# Altium integrated library Lattice Semiconductor ispMACH 4000Z.IntLib: 102 symbols (part 6 of 11)
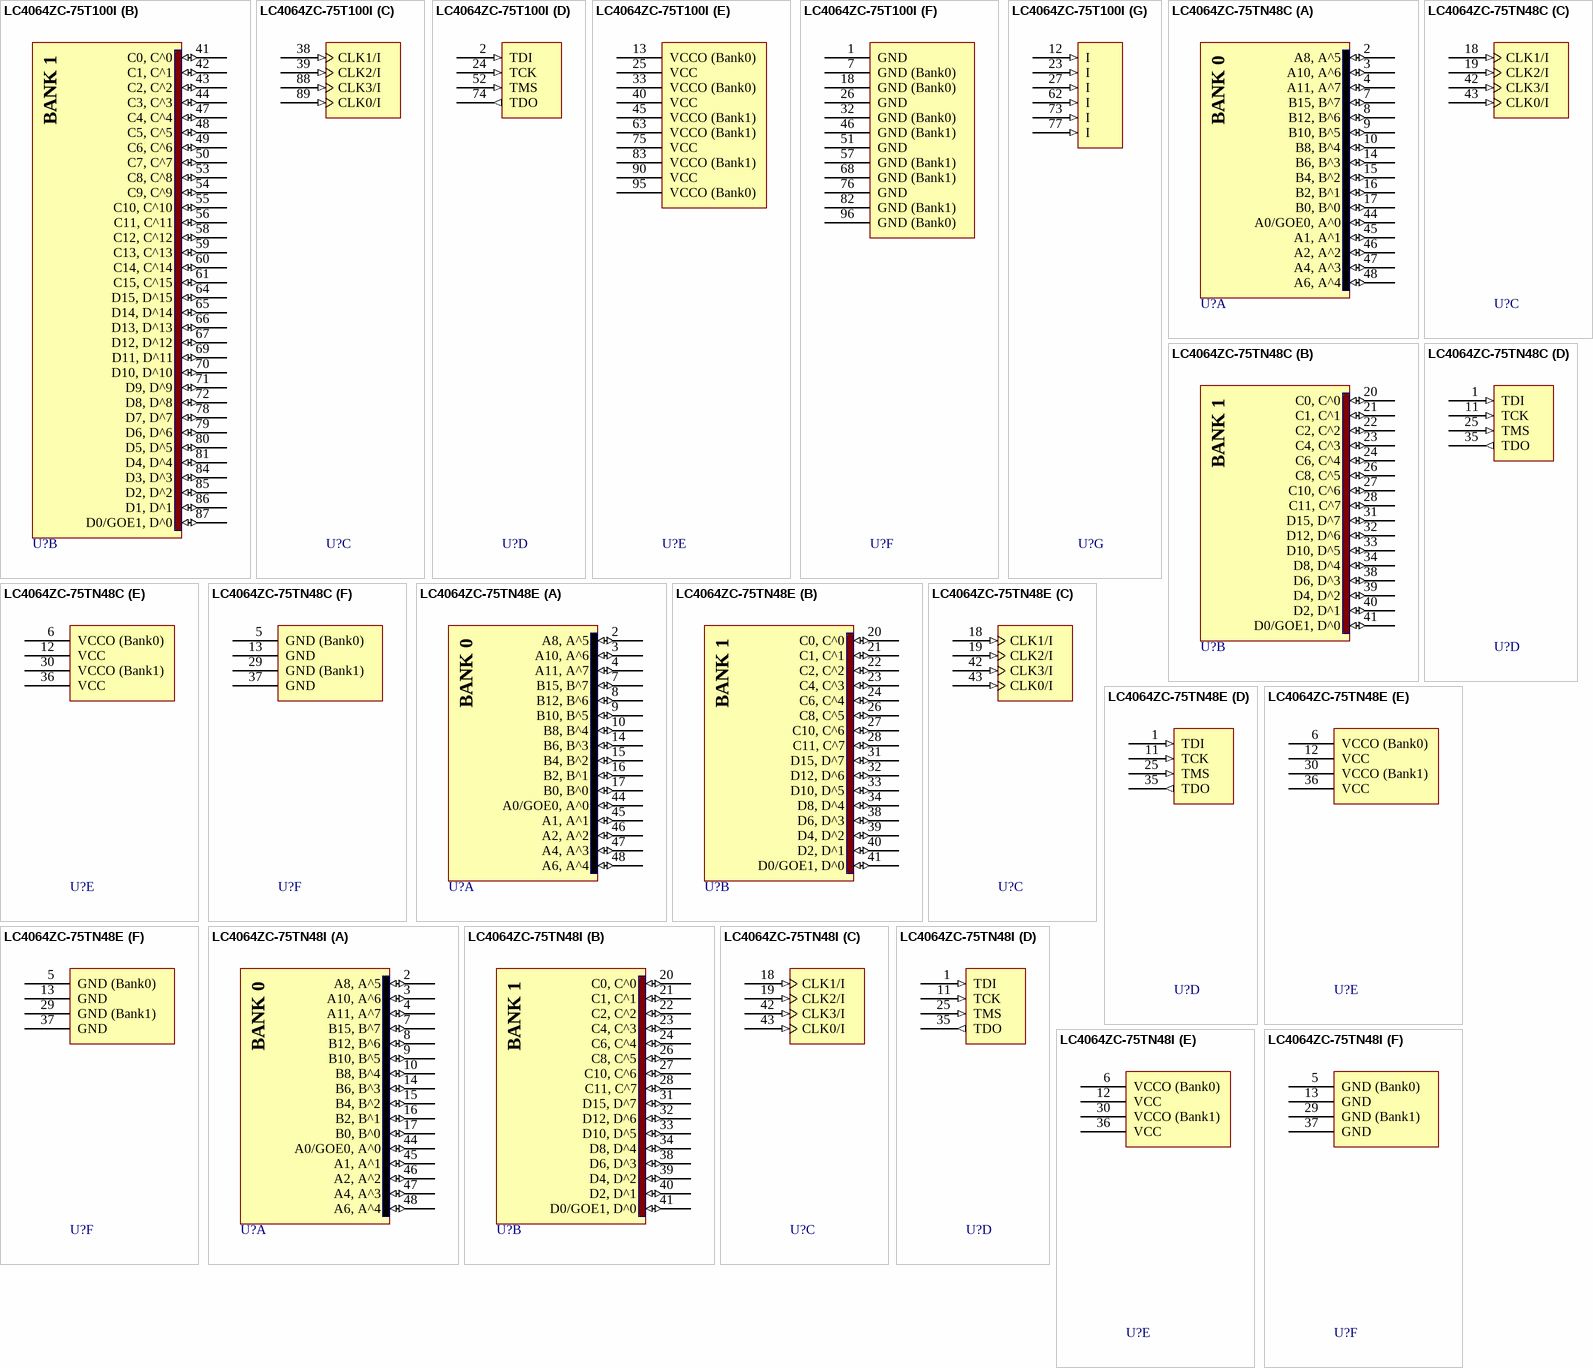
[diagram p46: symbols LC4064ZC-75T100I to LC4064ZC-75TN48I]

## LC4064ZC-75TN48I
designator U?
ispMACH 4064 SuperFAST High Density PLD, 1.8 V, 32 User I/Os, 48-Pin TQFP, 7.5 ns, Industrial Grade, Pb-Free; DatasheetVersion: ver22.3, Mar-2007; PackageVersion: ver02.6, Nov-2010; PackageReference: TQFP48(1mm); PackageDescription: 48-Pin Thin Quad Flat Pack 1.0 mm Thick (TQFP48); ComponentLink1Description: Manufacturer URL; ComponentLink1URL: http://www.latticesemi.com/; ComponentLink2Description: Datasheet; ComponentLink2URL: http://www.latticesemi.com/dynamic/view_document.cfm?document_id=3646
footprint TQFP48(1mm)_N (Thin QFP, 48-Leads, Body 7x7mm, Pitch 0.5mm, IPC Medium Density)
footprint TQFP48(1mm)_L (Thin QFP, 48-Leads, Body 7x7mm, Pitch 0.5mm, IPC High Density)
footprint TQFP48(1mm)_M (Thin QFP, 48-Leads, Body 7x7mm, Pitch 0.5mm, IPC Low Density)
part A pins: 2 A8, A^5 (io) "General purpose I/O.", 3 A10, A^6 (io) "General purpose I/O.", 4 A11, A^7 (io) "General purpose I/O.", 7 B15, B^7 (io) "General purpose I/O.", 8 B12, B^6 (io) "General purpose I/O.", 9 B10, B^5 (io) "General purpose I/O.", 10 B8, B^4 (io) "General purpose I/O.", 14 B6, B^3 (io) "General purpose I/O.", 15 B4, B^2 (io) "General purpose I/O.", 16 B2, B^1 (io) "General purpose I/O.", 17 B0, B^0 (io) "General purpose I/O.", 44 A0/GOE0, A^0 (io) "Either Global Output Enable Input or general I/O.", 45 A1, A^1 (io) "General purpose I/O.", 46 A2, A^2 (io) "General purpose I/O.", 47 A4, A^3 (io) "General purpose I/O.", 48 A6, A^4 (io) "General purpose I/O."
part B pins: 20 C0, C^0 (io) "General purpose I/O.", 21 C1, C^1 (io) "General purpose I/O.", 22 C2, C^2 (io) "General purpose I/O.", 23 C4, C^3 (io) "General purpose I/O.", 24 C6, C^4 (io) "General purpose I/O.", 26 C8, C^5 (io) "General purpose I/O.", 27 C10, C^6 (io) "General purpose I/O.", 28 C11, C^7 (io) "General purpose I/O.", 31 D15, D^7 (io) "General purpose I/O.", 32 D12, D^6 (io) "General purpose I/O.", 33 D10, D^5 (io) "General purpose I/O.", 34 D8, D^4 (io) "General purpose I/O.", 38 D6, D^3 (io) "General purpose I/O.", 39 D4, D^2 (io) "General purpose I/O.", 40 D2, D^1 (io) "General purpose I/O.", 41 D0/GOE1, D^0 (io) "Either Global Output Enable Input or general I/O."
part C pins: 18 CLK1/I (in) "Either CLK input or input.", 19 CLK2/I (in) "Either CLK input or input.", 42 CLK3/I (in) "Either CLK input or input.", 43 CLK0/I (in) "Either CLK input or input."
part D pins: 1 TDI (in) "Test Data Input. Loads data into device using 1149.1 state machine.", 11 TCK (in) "Test Clock Input for 1149.1 state machine.", 25 TMS (in) "Test Mode Select Input to control 1149.1 state machine.", 35 TDO (out) "Test Data Output. Shifts data out of device using 1149.1."
part E pins: 6 VCCO (Bank0) (power) "Power supply pin for I/O bank.", 12 VCC (power) "Power supply for logic core and JTAG port.", 30 VCCO (Bank1) (power) "Power supply pin for I/O bank.", 36 VCC (power) "Power supply for logic core and JTAG port."
part F pins: 5 GND (Bank0) (power) "I/O Ground", 13 GND (power) "Ground", 29 GND (Bank1) (power) "I/O Ground", 37 GND (power) "Ground"
part A text: BANK 0
part B text: BANK 1

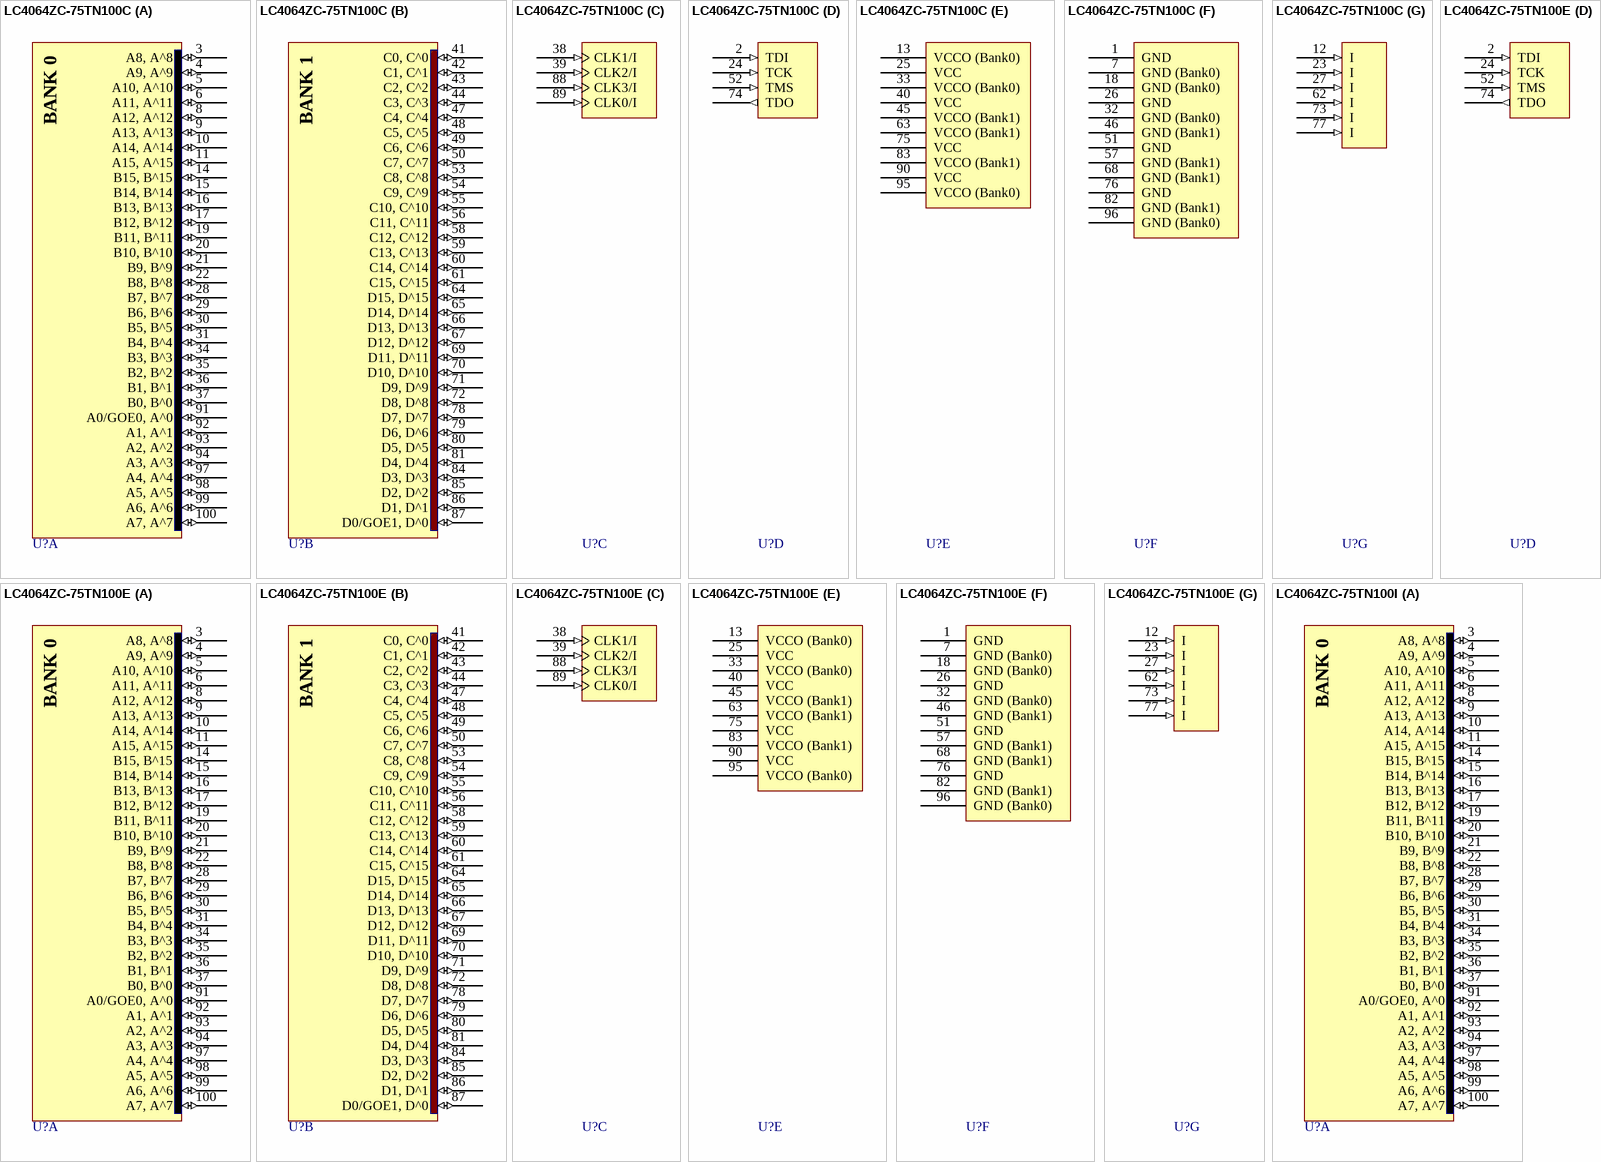
[diagram p19: symbols LC4064ZC-75TN100C to LC4064ZC-75TN100I]

## LC4064ZC-75TN100C
designator U?
ispMACH 4064 SuperFAST High Density PLD, 1.8 V, 64 User I/Os, 100-Pin TQFP, 7.5 ns, Commercial Grade, Pb-Free; DatasheetVersion: ver22.3, Mar-2007; PackageVersion: ver02.8, Jul-2011; PackageReference: TQFP100; PackageDescription: 100-Pin Thin Quad Flat Pack (TQFP100); Code_JEDEC: MS-026-BED; ComponentLink1Description: Manufacturer URL; ComponentLink1URL: http://www.latticesemi.com/; ComponentLink2Description: Datasheet; ComponentLink2URL: http://www.latticesemi.com/dynamic/view_document.cfm?document_id=3646
footprint TQFP100_N (Thin QFP, 100-Leads, Body 14x14mm, Pitch 0.5mm, IPC Medium Density)
footprint TQFP100_L (Thin QFP, 100-Leads, Body 14x14mm, Pitch 0.5mm, IPC High Density)
footprint TQFP100_M (Thin QFP, 100-Leads, Body 14x14mm, Pitch 0.5mm, IPC Low Density)
part A pins: 3 A8, A^8 (io) "General purpose I/O.", 4 A9, A^9 (io) "General purpose I/O.", 5 A10, A^10 (io) "General purpose I/O.", 6 A11, A^11 (io) "General purpose I/O.", 8 A12, A^12 (io) "General purpose I/O.", 9 A13, A^13 (io) "General purpose I/O.", 10 A14, A^14 (io) "General purpose I/O.", 11 A15, A^15 (io) "General purpose I/O.", 14 B15, B^15 (io) "General purpose I/O.", 15 B14, B^14 (io) "General purpose I/O.", 16 B13, B^13 (io) "General purpose I/O.", 17 B12, B^12 (io) "General purpose I/O.", 19 B11, B^11 (io) "General purpose I/O.", 20 B10, B^10 (io) "General purpose I/O.", 21 B9, B^9 (io) "General purpose I/O.", 22 B8, B^8 (io) "General purpose I/O.", 28 B7, B^7 (io) "General purpose I/O.", 29 B6, B^6 (io) "General purpose I/O.", 30 B5, B^5 (io) "General purpose I/O.", 31 B4, B^4 (io) "General purpose I/O.", 34 B3, B^3 (io) "General purpose I/O.", 35 B2, B^2 (io) "General purpose I/O.", 36 B1, B^1 (io) "General purpose I/O.", 37 B0, B^0 (io) "General purpose I/O.", 91 A0/GOE0, A^0 (io) "Either Global Output Enable Input or general I/O.", 92 A1, A^1 (io) "General purpose I/O.", 93 A2, A^2 (io) "General purpose I/O.", 94 A3, A^3 (io) "General purpose I/O.", 97 A4, A^4 (io) "General purpose I/O.", 98 A5, A^5 (io) "General purpose I/O.", 99 A6, A^6 (io) "General purpose I/O.", 100 A7, A^7 (io) "General purpose I/O."
part B pins: 41 C0, C^0 (io) "General purpose I/O.", 42 C1, C^1 (io) "General purpose I/O.", 43 C2, C^2 (io) "General purpose I/O.", 44 C3, C^3 (io) "General purpose I/O.", 47 C4, C^4 (io) "General purpose I/O.", 48 C5, C^5 (io) "General purpose I/O.", 49 C6, C^6 (io) "General purpose I/O.", 50 C7, C^7 (io) "General purpose I/O.", 53 C8, C^8 (io) "General purpose I/O.", 54 C9, C^9 (io) "General purpose I/O.", 55 C10, C^10 (io) "General purpose I/O.", 56 C11, C^11 (io) "General purpose I/O.", 58 C12, C^12 (io) "General purpose I/O.", 59 C13, C^13 (io) "General purpose I/O.", 60 C14, C^14 (io) "General purpose I/O.", 61 C15, C^15 (io) "General purpose I/O.", 64 D15, D^15 (io) "General purpose I/O.", 65 D14, D^14 (io) "General purpose I/O.", 66 D13, D^13 (io) "General purpose I/O.", 67 D12, D^12 (io) "General purpose I/O.", 69 D11, D^11 (io) "General purpose I/O.", 70 D10, D^10 (io) "General purpose I/O.", 71 D9, D^9 (io) "General purpose I/O.", 72 D8, D^8 (io) "General purpose I/O.", 78 D7, D^7 (io) "General purpose I/O.", 79 D6, D^6 (io) "General purpose I/O.", 80 D5, D^5 (io) "General purpose I/O.", 81 D4, D^4 (io) "General purpose I/O.", 84 D3, D^3 (io) "General purpose I/O.", 85 D2, D^2 (io) "General purpose I/O.", 86 D1, D^1 (io) "General purpose I/O.", 87 D0/GOE1, D^0 (io) "Either Global Output Enable Input or general I/O."
part C pins: 38 CLK1/I (in) "Either CLK input or input.", 39 CLK2/I (in) "Either CLK input or input.", 88 CLK3/I (in) "Either CLK input or input.", 89 CLK0/I (in) "Either CLK input or input."
part D pins: 2 TDI (in) "Test Data Input. Loads data into device using 1149.1 state machine.", 24 TCK (in) "Test Clock Input for 1149.1 state machine.", 52 TMS (in) "Test Mode Select Input to control 1149.1 state machine.", 74 TDO (out) "Test Data Output. Shifts data out of device using 1149.1."
part E pins: 13 VCCO (Bank0) (power) "Power supply pin for I/O bank.", 25 VCC (power) "Power supply for logic core and JTAG port.", 33 VCCO (Bank0) (power) "Power supply pin for I/O bank.", 40 VCC (power) "Power supply for logic core and JTAG port.", 45 VCCO (Bank1) (power) "Power supply pin for I/O bank.", 63 VCCO (Bank1) (power) "Power supply pin for I/O bank.", 75 VCC (power) "Power supply for logic core and JTAG port.", 83 VCCO (Bank1) (power) "Power supply pin for I/O bank.", 90 VCC (power) "Power supply for logic core and JTAG port.", 95 VCCO (Bank0) (power) "Power supply pin for I/O bank."
part F pins: 1 GND (power) "Ground", 7 GND (Bank0) (power) "I/O Ground", 18 GND (Bank0) (power) "I/O Ground", 26 GND (power) "Ground", 32 GND (Bank0) (power) "I/O Ground", 46 GND (Bank1) (power) "I/O Ground", 51 GND (power) "Ground", 57 GND (Bank1) (power) "I/O Ground", 68 GND (Bank1) (power) "I/O Ground", 76 GND (power) "Ground", 82 GND (Bank1) (power) "I/O Ground", 96 GND (Bank0) (power) "I/O Ground"
part G pins: 12 I (in) "Input Signal Pin.", 23 I (in) "Input Signal Pin.", 27 I (in) "Input Signal Pin.", 62 I (in) "Input Signal Pin.", 73 I (in) "Input Signal Pin.", 77 I (in) "Input Signal Pin."
part A text: BANK 0
part B text: BANK 1

## LC4064ZC-75TN100E
designator U?
ispMACH 4064 SuperFAST High Density PLD, 1.8 V, 64 User I/Os, 100-Pin TQFP, 7.5 ns, Automotive Grade, Pb-Free; DatasheetVersion: ver22.3, Mar-2007; PackageVersion: ver02.8, Jul-2011; PackageReference: TQFP100; PackageDescription: 100-Pin Thin Quad Flat Pack (TQFP100); Code_JEDEC: MS-026-BED; ComponentLink1Description: Manufacturer URL; ComponentLink1URL: http://www.latticesemi.com/; ComponentLink2Description: Datasheet; ComponentLink2URL: http://www.latticesemi.com/dynamic/view_document.cfm?document_id=3646
footprint TQFP100_N (Thin QFP, 100-Leads, Body 14x14mm, Pitch 0.5mm, IPC Medium Density)
footprint TQFP100_L (Thin QFP, 100-Leads, Body 14x14mm, Pitch 0.5mm, IPC High Density)
footprint TQFP100_M (Thin QFP, 100-Leads, Body 14x14mm, Pitch 0.5mm, IPC Low Density)
part A pins: 3 A8, A^8 (io) "General purpose I/O.", 4 A9, A^9 (io) "General purpose I/O.", 5 A10, A^10 (io) "General purpose I/O.", 6 A11, A^11 (io) "General purpose I/O.", 8 A12, A^12 (io) "General purpose I/O.", 9 A13, A^13 (io) "General purpose I/O.", 10 A14, A^14 (io) "General purpose I/O.", 11 A15, A^15 (io) "General purpose I/O.", 14 B15, B^15 (io) "General purpose I/O.", 15 B14, B^14 (io) "General purpose I/O.", 16 B13, B^13 (io) "General purpose I/O.", 17 B12, B^12 (io) "General purpose I/O.", 19 B11, B^11 (io) "General purpose I/O.", 20 B10, B^10 (io) "General purpose I/O.", 21 B9, B^9 (io) "General purpose I/O.", 22 B8, B^8 (io) "General purpose I/O.", 28 B7, B^7 (io) "General purpose I/O.", 29 B6, B^6 (io) "General purpose I/O.", 30 B5, B^5 (io) "General purpose I/O.", 31 B4, B^4 (io) "General purpose I/O.", 34 B3, B^3 (io) "General purpose I/O.", 35 B2, B^2 (io) "General purpose I/O.", 36 B1, B^1 (io) "General purpose I/O.", 37 B0, B^0 (io) "General purpose I/O.", 91 A0/GOE0, A^0 (io) "Either Global Output Enable Input or general I/O.", 92 A1, A^1 (io) "General purpose I/O.", 93 A2, A^2 (io) "General purpose I/O.", 94 A3, A^3 (io) "General purpose I/O.", 97 A4, A^4 (io) "General purpose I/O.", 98 A5, A^5 (io) "General purpose I/O.", 99 A6, A^6 (io) "General purpose I/O.", 100 A7, A^7 (io) "General purpose I/O."
part B pins: 41 C0, C^0 (io) "General purpose I/O.", 42 C1, C^1 (io) "General purpose I/O.", 43 C2, C^2 (io) "General purpose I/O.", 44 C3, C^3 (io) "General purpose I/O.", 47 C4, C^4 (io) "General purpose I/O.", 48 C5, C^5 (io) "General purpose I/O.", 49 C6, C^6 (io) "General purpose I/O.", 50 C7, C^7 (io) "General purpose I/O.", 53 C8, C^8 (io) "General purpose I/O.", 54 C9, C^9 (io) "General purpose I/O.", 55 C10, C^10 (io) "General purpose I/O.", 56 C11, C^11 (io) "General purpose I/O.", 58 C12, C^12 (io) "General purpose I/O.", 59 C13, C^13 (io) "General purpose I/O.", 60 C14, C^14 (io) "General purpose I/O.", 61 C15, C^15 (io) "General purpose I/O.", 64 D15, D^15 (io) "General purpose I/O.", 65 D14, D^14 (io) "General purpose I/O.", 66 D13, D^13 (io) "General purpose I/O.", 67 D12, D^12 (io) "General purpose I/O.", 69 D11, D^11 (io) "General purpose I/O.", 70 D10, D^10 (io) "General purpose I/O.", 71 D9, D^9 (io) "General purpose I/O.", 72 D8, D^8 (io) "General purpose I/O.", 78 D7, D^7 (io) "General purpose I/O.", 79 D6, D^6 (io) "General purpose I/O.", 80 D5, D^5 (io) "General purpose I/O.", 81 D4, D^4 (io) "General purpose I/O.", 84 D3, D^3 (io) "General purpose I/O.", 85 D2, D^2 (io) "General purpose I/O.", 86 D1, D^1 (io) "General purpose I/O.", 87 D0/GOE1, D^0 (io) "Either Global Output Enable Input or general I/O."
part C pins: 38 CLK1/I (in) "Either CLK input or input.", 39 CLK2/I (in) "Either CLK input or input.", 88 CLK3/I (in) "Either CLK input or input.", 89 CLK0/I (in) "Either CLK input or input."
part D pins: 2 TDI (in) "Test Data Input. Loads data into device using 1149.1 state machine.", 24 TCK (in) "Test Clock Input for 1149.1 state machine.", 52 TMS (in) "Test Mode Select Input to control 1149.1 state machine.", 74 TDO (out) "Test Data Output. Shifts data out of device using 1149.1."
part E pins: 13 VCCO (Bank0) (power) "Power supply pin for I/O bank.", 25 VCC (power) "Power supply for logic core and JTAG port.", 33 VCCO (Bank0) (power) "Power supply pin for I/O bank.", 40 VCC (power) "Power supply for logic core and JTAG port.", 45 VCCO (Bank1) (power) "Power supply pin for I/O bank.", 63 VCCO (Bank1) (power) "Power supply pin for I/O bank.", 75 VCC (power) "Power supply for logic core and JTAG port.", 83 VCCO (Bank1) (power) "Power supply pin for I/O bank.", 90 VCC (power) "Power supply for logic core and JTAG port.", 95 VCCO (Bank0) (power) "Power supply pin for I/O bank."
part F pins: 1 GND (power) "Ground", 7 GND (Bank0) (power) "I/O Ground", 18 GND (Bank0) (power) "I/O Ground", 26 GND (power) "Ground", 32 GND (Bank0) (power) "I/O Ground", 46 GND (Bank1) (power) "I/O Ground", 51 GND (power) "Ground", 57 GND (Bank1) (power) "I/O Ground", 68 GND (Bank1) (power) "I/O Ground", 76 GND (power) "Ground", 82 GND (Bank1) (power) "I/O Ground", 96 GND (Bank0) (power) "I/O Ground"
part G pins: 12 I (in) "Input Signal Pin.", 23 I (in) "Input Signal Pin.", 27 I (in) "Input Signal Pin.", 62 I (in) "Input Signal Pin.", 73 I (in) "Input Signal Pin.", 77 I (in) "Input Signal Pin."
part A text: BANK 0
part B text: BANK 1

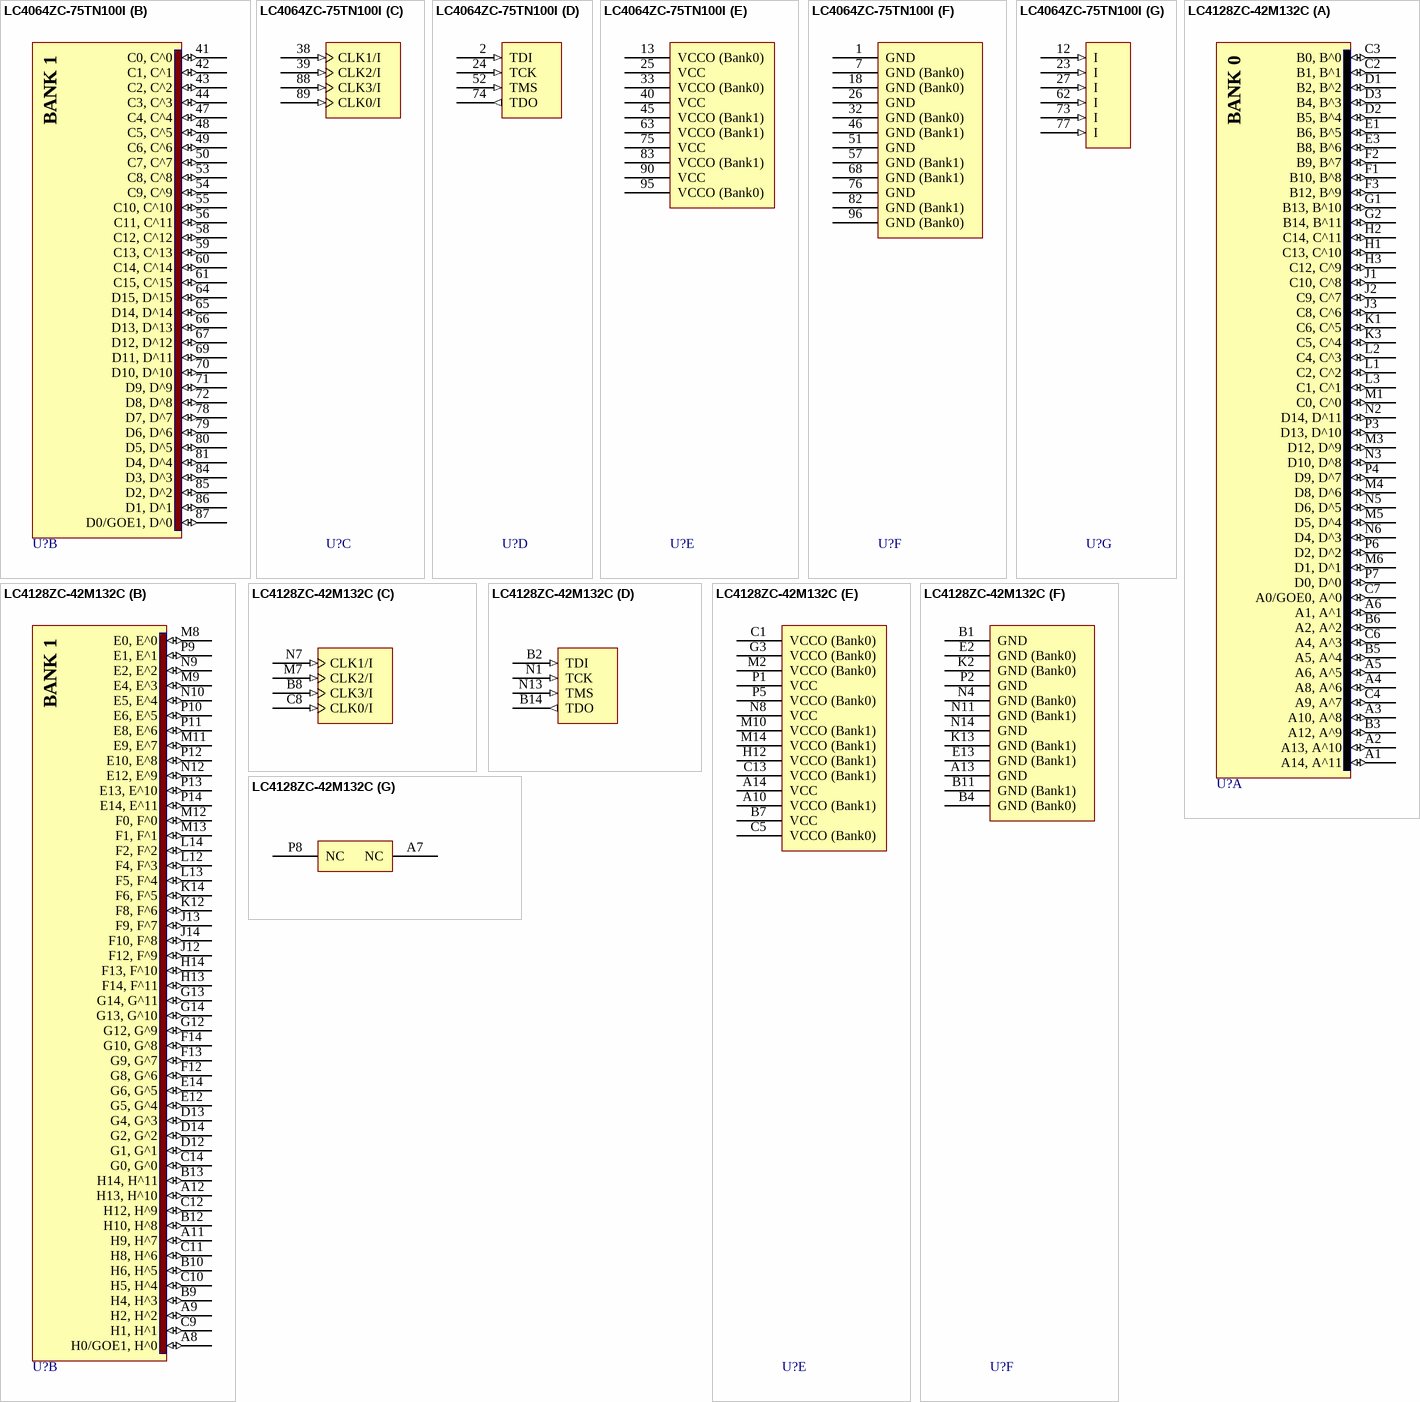
[diagram p20: symbols LC4064ZC-75TN100I to LC4128ZC-42M132C]

## LC4064ZC-75TN100I
designator U?
ispMACH 4064 SuperFAST High Density PLD, 1.8 V, 64 User I/Os, 100-Pin TQFP, 7.5 ns, Industrial Grade, Pb-Free; DatasheetVersion: ver22.3, Mar-2007; PackageVersion: ver02.8, Jul-2011; PackageReference: TQFP100; PackageDescription: 100-Pin Thin Quad Flat Pack (TQFP100); Code_JEDEC: MS-026-BED; ComponentLink1Description: Manufacturer URL; ComponentLink1URL: http://www.latticesemi.com/; ComponentLink2Description: Datasheet; ComponentLink2URL: http://www.latticesemi.com/dynamic/view_document.cfm?document_id=3646
footprint TQFP100_N (Thin QFP, 100-Leads, Body 14x14mm, Pitch 0.5mm, IPC Medium Density)
footprint TQFP100_L (Thin QFP, 100-Leads, Body 14x14mm, Pitch 0.5mm, IPC High Density)
footprint TQFP100_M (Thin QFP, 100-Leads, Body 14x14mm, Pitch 0.5mm, IPC Low Density)
part A pins: 3 A8, A^8 (io) "General purpose I/O.", 4 A9, A^9 (io) "General purpose I/O.", 5 A10, A^10 (io) "General purpose I/O.", 6 A11, A^11 (io) "General purpose I/O.", 8 A12, A^12 (io) "General purpose I/O.", 9 A13, A^13 (io) "General purpose I/O.", 10 A14, A^14 (io) "General purpose I/O.", 11 A15, A^15 (io) "General purpose I/O.", 14 B15, B^15 (io) "General purpose I/O.", 15 B14, B^14 (io) "General purpose I/O.", 16 B13, B^13 (io) "General purpose I/O.", 17 B12, B^12 (io) "General purpose I/O.", 19 B11, B^11 (io) "General purpose I/O.", 20 B10, B^10 (io) "General purpose I/O.", 21 B9, B^9 (io) "General purpose I/O.", 22 B8, B^8 (io) "General purpose I/O.", 28 B7, B^7 (io) "General purpose I/O.", 29 B6, B^6 (io) "General purpose I/O.", 30 B5, B^5 (io) "General purpose I/O.", 31 B4, B^4 (io) "General purpose I/O.", 34 B3, B^3 (io) "General purpose I/O.", 35 B2, B^2 (io) "General purpose I/O.", 36 B1, B^1 (io) "General purpose I/O.", 37 B0, B^0 (io) "General purpose I/O.", 91 A0/GOE0, A^0 (io) "Either Global Output Enable Input or general I/O.", 92 A1, A^1 (io) "General purpose I/O.", 93 A2, A^2 (io) "General purpose I/O.", 94 A3, A^3 (io) "General purpose I/O.", 97 A4, A^4 (io) "General purpose I/O.", 98 A5, A^5 (io) "General purpose I/O.", 99 A6, A^6 (io) "General purpose I/O.", 100 A7, A^7 (io) "General purpose I/O."
part B pins: 41 C0, C^0 (io) "General purpose I/O.", 42 C1, C^1 (io) "General purpose I/O.", 43 C2, C^2 (io) "General purpose I/O.", 44 C3, C^3 (io) "General purpose I/O.", 47 C4, C^4 (io) "General purpose I/O.", 48 C5, C^5 (io) "General purpose I/O.", 49 C6, C^6 (io) "General purpose I/O.", 50 C7, C^7 (io) "General purpose I/O.", 53 C8, C^8 (io) "General purpose I/O.", 54 C9, C^9 (io) "General purpose I/O.", 55 C10, C^10 (io) "General purpose I/O.", 56 C11, C^11 (io) "General purpose I/O.", 58 C12, C^12 (io) "General purpose I/O.", 59 C13, C^13 (io) "General purpose I/O.", 60 C14, C^14 (io) "General purpose I/O.", 61 C15, C^15 (io) "General purpose I/O.", 64 D15, D^15 (io) "General purpose I/O.", 65 D14, D^14 (io) "General purpose I/O.", 66 D13, D^13 (io) "General purpose I/O.", 67 D12, D^12 (io) "General purpose I/O.", 69 D11, D^11 (io) "General purpose I/O.", 70 D10, D^10 (io) "General purpose I/O.", 71 D9, D^9 (io) "General purpose I/O.", 72 D8, D^8 (io) "General purpose I/O.", 78 D7, D^7 (io) "General purpose I/O.", 79 D6, D^6 (io) "General purpose I/O.", 80 D5, D^5 (io) "General purpose I/O.", 81 D4, D^4 (io) "General purpose I/O.", 84 D3, D^3 (io) "General purpose I/O.", 85 D2, D^2 (io) "General purpose I/O.", 86 D1, D^1 (io) "General purpose I/O.", 87 D0/GOE1, D^0 (io) "Either Global Output Enable Input or general I/O."
part C pins: 38 CLK1/I (in) "Either CLK input or input.", 39 CLK2/I (in) "Either CLK input or input.", 88 CLK3/I (in) "Either CLK input or input.", 89 CLK0/I (in) "Either CLK input or input."
part D pins: 2 TDI (in) "Test Data Input. Loads data into device using 1149.1 state machine.", 24 TCK (in) "Test Clock Input for 1149.1 state machine.", 52 TMS (in) "Test Mode Select Input to control 1149.1 state machine.", 74 TDO (out) "Test Data Output. Shifts data out of device using 1149.1."
part E pins: 13 VCCO (Bank0) (power) "Power supply pin for I/O bank.", 25 VCC (power) "Power supply for logic core and JTAG port.", 33 VCCO (Bank0) (power) "Power supply pin for I/O bank.", 40 VCC (power) "Power supply for logic core and JTAG port.", 45 VCCO (Bank1) (power) "Power supply pin for I/O bank.", 63 VCCO (Bank1) (power) "Power supply pin for I/O bank.", 75 VCC (power) "Power supply for logic core and JTAG port.", 83 VCCO (Bank1) (power) "Power supply pin for I/O bank.", 90 VCC (power) "Power supply for logic core and JTAG port.", 95 VCCO (Bank0) (power) "Power supply pin for I/O bank."
part F pins: 1 GND (power) "Ground", 7 GND (Bank0) (power) "I/O Ground", 18 GND (Bank0) (power) "I/O Ground", 26 GND (power) "Ground", 32 GND (Bank0) (power) "I/O Ground", 46 GND (Bank1) (power) "I/O Ground", 51 GND (power) "Ground", 57 GND (Bank1) (power) "I/O Ground", 68 GND (Bank1) (power) "I/O Ground", 76 GND (power) "Ground", 82 GND (Bank1) (power) "I/O Ground", 96 GND (Bank0) (power) "I/O Ground"
part G pins: 12 I (in) "Input Signal Pin.", 23 I (in) "Input Signal Pin.", 27 I (in) "Input Signal Pin.", 62 I (in) "Input Signal Pin.", 73 I (in) "Input Signal Pin.", 77 I (in) "Input Signal Pin."
part A text: BANK 0
part B text: BANK 1

## LC4128ZC-42M132C
designator U?
ispMACH 4128 SuperFAST High Density PLD, 1.8 V, 96 User I/Os, 132-Ball caBGA, 4.2 ns, Commercial Grade; DatasheetVersion: ver22.3, Mar-2007; PackageVersion: ver02.8, Jul-2011; PackageReference: csBGA132; PackageDescription: 132-Ball Chip Scale Ball Grid Array (csBGA132); ComponentLink1Description: Manufacturer URL; ComponentLink1URL: http://www.latticesemi.com/; ComponentLink2Description: Datasheet; ComponentLink2URL: http://www.latticesemi.com/dynamic/view_document.cfm?document_id=3646
footprint csBGA132 (BGA, 132-Leads, Body 8x8mm, Pitch 0.5mm)
part A pins: A1 A14, A^11 (io) "General purpose I/O.", A2 A13, A^10 (io) "General purpose I/O.", A3 A10, A^8 (io) "General purpose I/O.", A4 A8, A^6 (io) "General purpose I/O.", A5 A6, A^5 (io) "General purpose I/O.", A6 A1, A^1 (io) "General purpose I/O.", B3 A12, A^9 (io) "General purpose I/O.", B5 A5, A^4 (io) "General purpose I/O.", B6 A2, A^2 (io) "General purpose I/O.", C2 B1, B^1 (io) "General purpose I/O.", C3 B0, B^0 (io) "General purpose I/O.", C4 A9, A^7 (io) "General purpose I/O.", C6 A4, A^3 (io) "General purpose I/O.", C7 A0/GOE0, A^0 (io) "Either Global Output Enable Input or general I/O.", D1 B2, B^2 (io) "General purpose I/O.", D2 B5, B^4 (io) "General purpose I/O.", D3 B4, B^3 (io) "General purpose I/O.", E1 B6, B^5 (io) "General purpose I/O.", E3 B8, B^6 (io) "General purpose I/O.", F1 B10, B^8 (io) "General purpose I/O.", F2 B9, B^7 (io) "General purpose I/O.", F3 B12, B^9 (io) "General purpose I/O.", G1 B13, B^10 (io) "General purpose I/O.", G2 B14, B^11 (io) "General purpose I/O.", H1 C13, C^10 (io) "General purpose I/O.", H2 C14, C^11 (io) "General purpose I/O.", H3 C12, C^9 (io) "General purpose I/O.", J1 C10, C^8 (io) "General purpose I/O.", J2 C9, C^7 (io) "General purpose I/O.", J3 C8, C^6 (io) "General purpose I/O.", K1 C6, C^5 (io) "General purpose I/O.", K3 C5, C^4 (io) "General purpose I/O.", L1 C2, C^2 (io) "General purpose I/O.", L2 C4, C^3 (io) "General purpose I/O.", L3 C1, C^1 (io) "General purpose I/O.", M1 C0, C^0 (io) "General purpose I/O.", M3 D12, D^9 (io) "General purpose I/O.", M4 D8, D^6 (io) "General purpose I/O.", M5 D5, D^4 (io) "General purpose I/O.", M6 D1, D^1 (io) "General purpose I/O.", N2 D14, D^11 (io) "General purpose I/O.", N3 D10, D^8 (io) "General purpose I/O.", N5 D6, D^5 (io) "General purpose I/O.", N6 D4, D^3 (io) "General purpose I/O.", P3 D13, D^10 (io) "General purpose I/O.", P4 D9, D^7 (io) "General purpose I/O.", P6 D2, D^2 (io) "General purpose I/O.", P7 D0, D^0 (io) "General purpose I/O."
part B pins: A8 H0/GOE1, H^0 (io) "Either Global Output Enable Input or general I/O.", A9 H2, H^2 (io) "General purpose I/O.", A11 H9, H^7 (io) "General purpose I/O.", A12 H13, H^10 (io) "General purpose I/O.", B9 H4, H^3 (io) "General purpose I/O.", B10 H6, H^5 (io) "General purpose I/O.", B12 H10, H^8 (io) "General purpose I/O.", B13 H14, H^11 (io) "General purpose I/O.", C9 H1, H^1 (io) "General purpose I/O.", C10 H5, H^4 (io) "General purpose I/O.", C11 H8, H^6 (io) "General purpose I/O.", C12 H12, H^9 (io) "General purpose I/O.", C14 G0, G^0 (io) "General purpose I/O.", D12 G1, G^1 (io) "General purpose I/O.", D13 G4, G^3 (io) "General purpose I/O.", D14 G2, G^2 (io) "General purpose I/O.", E12 G5, G^4 (io) "General purpose I/O.", E14 G6, G^5 (io) "General purpose I/O.", F12 G8, G^6 (io) "General purpose I/O.", F13 G9, G^7 (io) "General purpose I/O.", F14 G10, G^8 (io) "General purpose I/O.", G12 G12, G^9 (io) "General purpose I/O.", G13 G14, G^11 (io) "General purpose I/O.", G14 G13, G^10 (io) "General purpose I/O.", H13 F14, F^11 (io) "General purpose I/O.", H14 F13, F^10 (io) "General purpose I/O.", J12 F12, F^9 (io) "General purpose I/O.", J13 F9, F^7 (io) "General purpose I/O.", J14 F10, F^8 (io) "General purpose I/O.", K12 F8, F^6 (io) "General purpose I/O.", K14 F6, F^5 (io) "General purpose I/O.", L12 F4, F^3 (io) "General purpose I/O.", L13 F5, F^4 (io) "General purpose I/O.", L14 F2, F^2 (io) "General purpose I/O.", M8 E0, E^0 (io) "General purpose I/O.", M9 E4, E^3 (io) "General purpose I/O.", M11 E9, E^7 (io) "General purpose I/O.", M12 F0, F^0 (io) "General purpose I/O.", M13 F1, F^1 (io) "General purpose I/O.", N9 E2, E^2 (io) "General purpose I/O.", N10 E5, E^4 (io) "General purpose I/O.", N12 E12, E^9 (io) "General purpose I/O.", P9 E1, E^1 (io) "General purpose I/O.", P10 E6, E^5 (io) "General purpose I/O.", P11 E8, E^6 (io) "General purpose I/O.", P12 E10, E^8 (io) "General purpose I/O.", P13 E13, E^10 (io) "General purpose I/O.", P14 E14, E^11 (io) "General purpose I/O."
part C pins: B8 CLK3/I (in) "Either CLK input or input.", C8 CLK0/I (in) "Either CLK input or input.", M7 CLK2/I (in) "Either CLK input or input.", N7 CLK1/I (in) "Either CLK input or input."
part D pins: B2 TDI (in) "Test Data Input. Loads data into device using 1149.1 state machine.", B14 TDO (out) "Test Data Output. Shifts data out of device using 1149.1.", N1 TCK (in) "Test Clock Input for 1149.1 state machine.", N13 TMS (in) "Test Mode Select Input to control 1149.1 state machine."
part E pins: A10 VCCO (Bank1) (power) "Power supply pin for I/O bank.", A14 VCC (power) "Power supply for logic core and JTAG port.", B7 VCC (power) "Power supply for logic core and JTAG port.", C1 VCCO (Bank0) (power) "Power supply pin for I/O bank.", C5 VCCO (Bank0) (power) "Power supply pin for I/O bank.", C13 VCCO (Bank1) (power) "Power supply pin for I/O bank.", G3 VCCO (Bank0) (power) "Power supply pin for I/O bank.", H12 VCCO (Bank1) (power) "Power supply pin for I/O bank.", M2 VCCO (Bank0) (power) "Power supply pin for I/O bank.", M10 VCCO (Bank1) (power) "Power supply pin for I/O bank.", M14 VCCO (Bank1) (power) "Power supply pin for I/O bank.", N8 VCC (power) "Power supply for logic core and JTAG port.", P1 VCC (power) "Power supply for logic core and JTAG port.", P5 VCCO (Bank0) (power) "Power supply pin for I/O bank."
part F pins: A13 GND (power) "Ground", B1 GND (power) "Ground", B4 GND (Bank0) (power) "I/O Ground", B11 GND (Bank1) (power) "I/O Ground", E2 GND (Bank0) (power) "I/O Ground", E13 GND (Bank1) (power) "I/O Ground", K2 GND (Bank0) (power) "I/O Ground", K13 GND (Bank1) (power) "I/O Ground", N4 GND (Bank0) (power) "I/O Ground", N11 GND (Bank1) (power) "I/O Ground", N14 GND (power) "Ground", P2 GND (power) "Ground"
part G pins: A7 NC "Not Connected.", P8 NC "Not Connected."
part A text: BANK 0
part B text: BANK 1

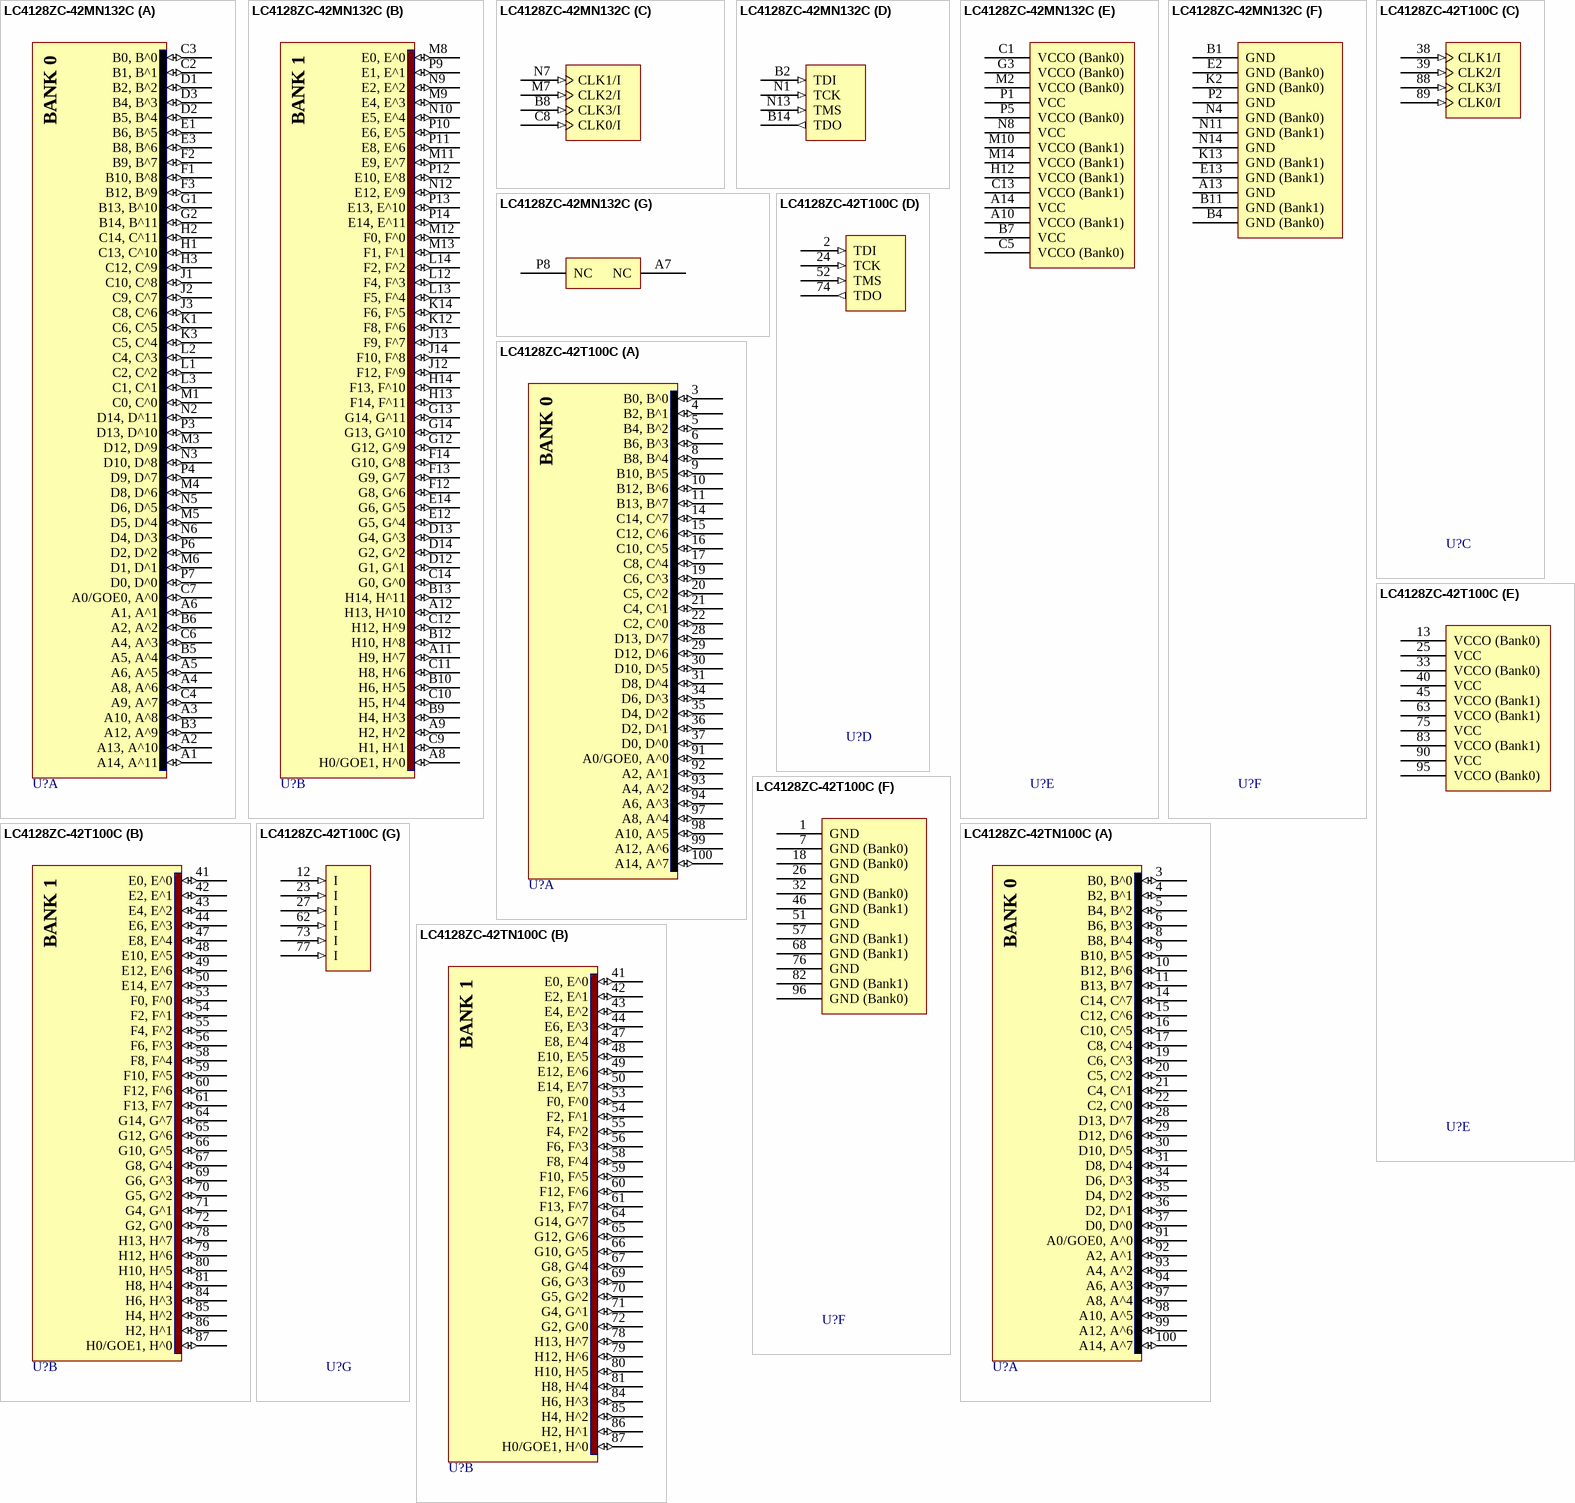
[diagram p21: symbols LC4128ZC-42MN132C to LC4128ZC-42TN100C]

## LC4128ZC-42MN132C
designator U?
ispMACH 4128 SuperFAST High Density PLD, 1.8 V, 96 User I/Os, 132-Ball caBGA, 4.2 ns, Commercial Grade, Pb-Free; DatasheetVersion: ver22.3, Mar-2007; PackageVersion: ver02.8, Jul-2011; PackageReference: csBGA132; PackageDescription: 132-Ball Chip Scale Ball Grid Array (csBGA132); ComponentLink1Description: Manufacturer URL; ComponentLink1URL: http://www.latticesemi.com/; ComponentLink2Description: Datasheet; ComponentLink2URL: http://www.latticesemi.com/dynamic/view_document.cfm?document_id=3646
footprint csBGA132 (BGA, 132-Leads, Body 8x8mm, Pitch 0.5mm)
part A pins: A1 A14, A^11 (io) "General purpose I/O.", A2 A13, A^10 (io) "General purpose I/O.", A3 A10, A^8 (io) "General purpose I/O.", A4 A8, A^6 (io) "General purpose I/O.", A5 A6, A^5 (io) "General purpose I/O.", A6 A1, A^1 (io) "General purpose I/O.", B3 A12, A^9 (io) "General purpose I/O.", B5 A5, A^4 (io) "General purpose I/O.", B6 A2, A^2 (io) "General purpose I/O.", C2 B1, B^1 (io) "General purpose I/O.", C3 B0, B^0 (io) "General purpose I/O.", C4 A9, A^7 (io) "General purpose I/O.", C6 A4, A^3 (io) "General purpose I/O.", C7 A0/GOE0, A^0 (io) "Either Global Output Enable Input or general I/O.", D1 B2, B^2 (io) "General purpose I/O.", D2 B5, B^4 (io) "General purpose I/O.", D3 B4, B^3 (io) "General purpose I/O.", E1 B6, B^5 (io) "General purpose I/O.", E3 B8, B^6 (io) "General purpose I/O.", F1 B10, B^8 (io) "General purpose I/O.", F2 B9, B^7 (io) "General purpose I/O.", F3 B12, B^9 (io) "General purpose I/O.", G1 B13, B^10 (io) "General purpose I/O.", G2 B14, B^11 (io) "General purpose I/O.", H1 C13, C^10 (io) "General purpose I/O.", H2 C14, C^11 (io) "General purpose I/O.", H3 C12, C^9 (io) "General purpose I/O.", J1 C10, C^8 (io) "General purpose I/O.", J2 C9, C^7 (io) "General purpose I/O.", J3 C8, C^6 (io) "General purpose I/O.", K1 C6, C^5 (io) "General purpose I/O.", K3 C5, C^4 (io) "General purpose I/O.", L1 C2, C^2 (io) "General purpose I/O.", L2 C4, C^3 (io) "General purpose I/O.", L3 C1, C^1 (io) "General purpose I/O.", M1 C0, C^0 (io) "General purpose I/O.", M3 D12, D^9 (io) "General purpose I/O.", M4 D8, D^6 (io) "General purpose I/O.", M5 D5, D^4 (io) "General purpose I/O.", M6 D1, D^1 (io) "General purpose I/O.", N2 D14, D^11 (io) "General purpose I/O.", N3 D10, D^8 (io) "General purpose I/O.", N5 D6, D^5 (io) "General purpose I/O.", N6 D4, D^3 (io) "General purpose I/O.", P3 D13, D^10 (io) "General purpose I/O.", P4 D9, D^7 (io) "General purpose I/O.", P6 D2, D^2 (io) "General purpose I/O.", P7 D0, D^0 (io) "General purpose I/O."
part B pins: A8 H0/GOE1, H^0 (io) "Either Global Output Enable Input or general I/O.", A9 H2, H^2 (io) "General purpose I/O.", A11 H9, H^7 (io) "General purpose I/O.", A12 H13, H^10 (io) "General purpose I/O.", B9 H4, H^3 (io) "General purpose I/O.", B10 H6, H^5 (io) "General purpose I/O.", B12 H10, H^8 (io) "General purpose I/O.", B13 H14, H^11 (io) "General purpose I/O.", C9 H1, H^1 (io) "General purpose I/O.", C10 H5, H^4 (io) "General purpose I/O.", C11 H8, H^6 (io) "General purpose I/O.", C12 H12, H^9 (io) "General purpose I/O.", C14 G0, G^0 (io) "General purpose I/O.", D12 G1, G^1 (io) "General purpose I/O.", D13 G4, G^3 (io) "General purpose I/O.", D14 G2, G^2 (io) "General purpose I/O.", E12 G5, G^4 (io) "General purpose I/O.", E14 G6, G^5 (io) "General purpose I/O.", F12 G8, G^6 (io) "General purpose I/O.", F13 G9, G^7 (io) "General purpose I/O.", F14 G10, G^8 (io) "General purpose I/O.", G12 G12, G^9 (io) "General purpose I/O.", G13 G14, G^11 (io) "General purpose I/O.", G14 G13, G^10 (io) "General purpose I/O.", H13 F14, F^11 (io) "General purpose I/O.", H14 F13, F^10 (io) "General purpose I/O.", J12 F12, F^9 (io) "General purpose I/O.", J13 F9, F^7 (io) "General purpose I/O.", J14 F10, F^8 (io) "General purpose I/O.", K12 F8, F^6 (io) "General purpose I/O.", K14 F6, F^5 (io) "General purpose I/O.", L12 F4, F^3 (io) "General purpose I/O.", L13 F5, F^4 (io) "General purpose I/O.", L14 F2, F^2 (io) "General purpose I/O.", M8 E0, E^0 (io) "General purpose I/O.", M9 E4, E^3 (io) "General purpose I/O.", M11 E9, E^7 (io) "General purpose I/O.", M12 F0, F^0 (io) "General purpose I/O.", M13 F1, F^1 (io) "General purpose I/O.", N9 E2, E^2 (io) "General purpose I/O.", N10 E5, E^4 (io) "General purpose I/O.", N12 E12, E^9 (io) "General purpose I/O.", P9 E1, E^1 (io) "General purpose I/O.", P10 E6, E^5 (io) "General purpose I/O.", P11 E8, E^6 (io) "General purpose I/O.", P12 E10, E^8 (io) "General purpose I/O.", P13 E13, E^10 (io) "General purpose I/O.", P14 E14, E^11 (io) "General purpose I/O."
part C pins: B8 CLK3/I (in) "Either CLK input or input.", C8 CLK0/I (in) "Either CLK input or input.", M7 CLK2/I (in) "Either CLK input or input.", N7 CLK1/I (in) "Either CLK input or input."
part D pins: B2 TDI (in) "Test Data Input. Loads data into device using 1149.1 state machine.", B14 TDO (out) "Test Data Output. Shifts data out of device using 1149.1.", N1 TCK (in) "Test Clock Input for 1149.1 state machine.", N13 TMS (in) "Test Mode Select Input to control 1149.1 state machine."
part E pins: A10 VCCO (Bank1) (power) "Power supply pin for I/O bank.", A14 VCC (power) "Power supply for logic core and JTAG port.", B7 VCC (power) "Power supply for logic core and JTAG port.", C1 VCCO (Bank0) (power) "Power supply pin for I/O bank.", C5 VCCO (Bank0) (power) "Power supply pin for I/O bank.", C13 VCCO (Bank1) (power) "Power supply pin for I/O bank.", G3 VCCO (Bank0) (power) "Power supply pin for I/O bank.", H12 VCCO (Bank1) (power) "Power supply pin for I/O bank.", M2 VCCO (Bank0) (power) "Power supply pin for I/O bank.", M10 VCCO (Bank1) (power) "Power supply pin for I/O bank.", M14 VCCO (Bank1) (power) "Power supply pin for I/O bank.", N8 VCC (power) "Power supply for logic core and JTAG port.", P1 VCC (power) "Power supply for logic core and JTAG port.", P5 VCCO (Bank0) (power) "Power supply pin for I/O bank."
part F pins: A13 GND (power) "Ground", B1 GND (power) "Ground", B4 GND (Bank0) (power) "I/O Ground", B11 GND (Bank1) (power) "I/O Ground", E2 GND (Bank0) (power) "I/O Ground", E13 GND (Bank1) (power) "I/O Ground", K2 GND (Bank0) (power) "I/O Ground", K13 GND (Bank1) (power) "I/O Ground", N4 GND (Bank0) (power) "I/O Ground", N11 GND (Bank1) (power) "I/O Ground", N14 GND (power) "Ground", P2 GND (power) "Ground"
part G pins: A7 NC "Not Connected.", P8 NC "Not Connected."
part A text: BANK 0
part B text: BANK 1

## LC4128ZC-42T100C
designator U?
ispMACH 4128 SuperFAST High Density PLD, 1.8 V, 64 User I/Os, 100-Pin TQFP, 4.2 ns, Commercial Grade; DatasheetVersion: ver22.3, Mar-2007; PackageVersion: ver02.8, Jul-2011; PackageReference: TQFP100; PackageDescription: 100-Pin Thin Quad Flat Pack (TQFP100); Code_JEDEC: MS-026-BED; ComponentLink1Description: Manufacturer URL; ComponentLink1URL: http://www.latticesemi.com/; ComponentLink2Description: Datasheet; ComponentLink2URL: http://www.latticesemi.com/dynamic/view_document.cfm?document_id=3646
footprint TQFP100_N (Thin QFP, 100-Leads, Body 14x14mm, Pitch 0.5mm, IPC Medium Density)
footprint TQFP100_L (Thin QFP, 100-Leads, Body 14x14mm, Pitch 0.5mm, IPC High Density)
footprint TQFP100_M (Thin QFP, 100-Leads, Body 14x14mm, Pitch 0.5mm, IPC Low Density)
part A pins: 3 B0, B^0 (io) "General purpose I/O.", 4 B2, B^1 (io) "General purpose I/O.", 5 B4, B^2 (io) "General purpose I/O.", 6 B6, B^3 (io) "General purpose I/O.", 8 B8, B^4 (io) "General purpose I/O.", 9 B10, B^5 (io) "General purpose I/O.", 10 B12, B^6 (io) "General purpose I/O.", 11 B13, B^7 (io) "General purpose I/O.", 14 C14, C^7 (io) "General purpose I/O.", 15 C12, C^6 (io) "General purpose I/O.", 16 C10, C^5 (io) "General purpose I/O.", 17 C8, C^4 (io) "General purpose I/O.", 19 C6, C^3 (io) "General purpose I/O.", 20 C5, C^2 (io) "General purpose I/O.", 21 C4, C^1 (io) "General purpose I/O.", 22 C2, C^0 (io) "General purpose I/O.", 28 D13, D^7 (io) "General purpose I/O.", 29 D12, D^6 (io) "General purpose I/O.", 30 D10, D^5 (io) "General purpose I/O.", 31 D8, D^4 (io) "General purpose I/O.", 34 D6, D^3 (io) "General purpose I/O.", 35 D4, D^2 (io) "General purpose I/O.", 36 D2, D^1 (io) "General purpose I/O.", 37 D0, D^0 (io) "General purpose I/O.", 91 A0/GOE0, A^0 (io) "Either Global Output Enable Input or general I/O.", 92 A2, A^1 (io) "General purpose I/O.", 93 A4, A^2 (io) "General purpose I/O.", 94 A6, A^3 (io) "General purpose I/O.", 97 A8, A^4 (io) "General purpose I/O.", 98 A10, A^5 (io) "General purpose I/O.", 99 A12, A^6 (io) "General purpose I/O.", 100 A14, A^7 (io) "General purpose I/O."
part B pins: 41 E0, E^0 (io) "General purpose I/O.", 42 E2, E^1 (io) "General purpose I/O.", 43 E4, E^2 (io) "General purpose I/O.", 44 E6, E^3 (io) "General purpose I/O.", 47 E8, E^4 (io) "General purpose I/O.", 48 E10, E^5 (io) "General purpose I/O.", 49 E12, E^6 (io) "General purpose I/O.", 50 E14, E^7 (io) "General purpose I/O.", 53 F0, F^0 (io) "General purpose I/O.", 54 F2, F^1 (io) "General purpose I/O.", 55 F4, F^2 (io) "General purpose I/O.", 56 F6, F^3 (io) "General purpose I/O.", 58 F8, F^4 (io) "General purpose I/O.", 59 F10, F^5 (io) "General purpose I/O.", 60 F12, F^6 (io) "General purpose I/O.", 61 F13, F^7 (io) "General purpose I/O.", 64 G14, G^7 (io) "General purpose I/O.", 65 G12, G^6 (io) "General purpose I/O.", 66 G10, G^5 (io) "General purpose I/O.", 67 G8, G^4 (io) "General purpose I/O.", 69 G6, G^3 (io) "General purpose I/O.", 70 G5, G^2 (io) "General purpose I/O.", 71 G4, G^1 (io) "General purpose I/O.", 72 G2, G^0 (io) "General purpose I/O.", 78 H13, H^7 (io) "General purpose I/O.", 79 H12, H^6 (io) "General purpose I/O.", 80 H10, H^5 (io) "General purpose I/O.", 81 H8, H^4 (io) "General purpose I/O.", 84 H6, H^3 (io) "General purpose I/O.", 85 H4, H^2 (io) "General purpose I/O.", 86 H2, H^1 (io) "General purpose I/O.", 87 H0/GOE1, H^0 (io) "Either Global Output Enable Input or general I/O."
part C pins: 38 CLK1/I (in) "Either CLK input or input.", 39 CLK2/I (in) "Either CLK input or input.", 88 CLK3/I (in) "Either CLK input or input.", 89 CLK0/I (in) "Either CLK input or input."
part D pins: 2 TDI (in) "Test Data Input. Loads data into device using 1149.1 state machine.", 24 TCK (in) "Test Clock Input for 1149.1 state machine.", 52 TMS (in) "Test Mode Select Input to control 1149.1 state machine.", 74 TDO (out) "Test Data Output. Shifts data out of device using 1149.1."
part E pins: 13 VCCO (Bank0) (power) "Power supply pin for I/O bank.", 25 VCC (power) "Power supply for logic core and JTAG port.", 33 VCCO (Bank0) (power) "Power supply pin for I/O bank.", 40 VCC (power) "Power supply for logic core and JTAG port.", 45 VCCO (Bank1) (power) "Power supply pin for I/O bank.", 63 VCCO (Bank1) (power) "Power supply pin for I/O bank.", 75 VCC (power) "Power supply for logic core and JTAG port.", 83 VCCO (Bank1) (power) "Power supply pin for I/O bank.", 90 VCC (power) "Power supply for logic core and JTAG port.", 95 VCCO (Bank0) (power) "Power supply pin for I/O bank."
part F pins: 1 GND (power) "Ground", 7 GND (Bank0) (power) "I/O Ground", 18 GND (Bank0) (power) "I/O Ground", 26 GND (power) "Ground", 32 GND (Bank0) (power) "I/O Ground", 46 GND (Bank1) (power) "I/O Ground", 51 GND (power) "Ground", 57 GND (Bank1) (power) "I/O Ground", 68 GND (Bank1) (power) "I/O Ground", 76 GND (power) "Ground", 82 GND (Bank1) (power) "I/O Ground", 96 GND (Bank0) (power) "I/O Ground"
part G pins: 12 I (in) "Input Signal Pin.", 23 I (in) "Input Signal Pin.", 27 I (in) "Input Signal Pin.", 62 I (in) "Input Signal Pin.", 73 I (in) "Input Signal Pin.", 77 I (in) "Input Signal Pin."
part A text: BANK 0
part B text: BANK 1

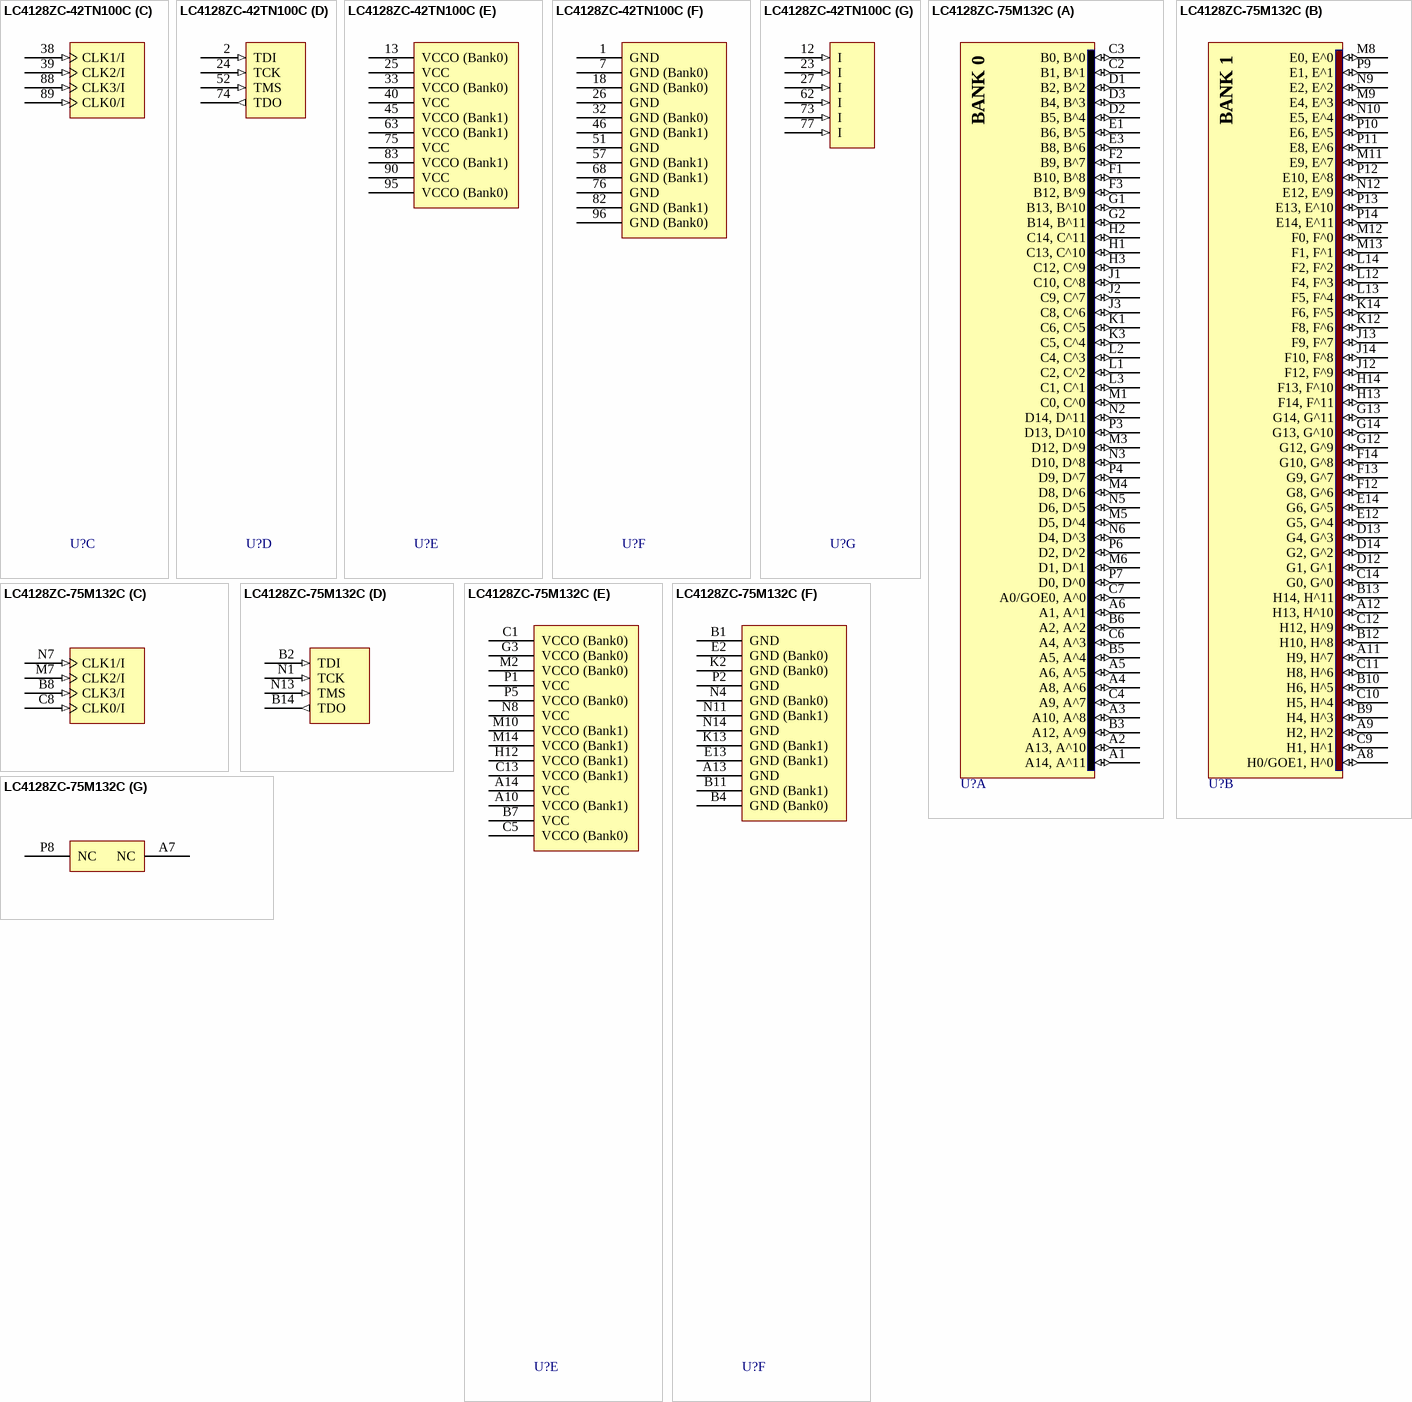
[diagram p22: symbols LC4128ZC-42TN100C to LC4128ZC-75M132C]

## LC4128ZC-42TN100C
designator U?
ispMACH 4128 SuperFAST High Density PLD, 1.8 V, 64 User I/Os, 100-Pin TQFP, 4.2 ns, Commercial Grade, Pb-Free; DatasheetVersion: ver22.3, Mar-2007; PackageVersion: ver02.8, Jul-2011; PackageReference: TQFP100; PackageDescription: 100-Pin Thin Quad Flat Pack (TQFP100); Code_JEDEC: MS-026-BED; ComponentLink1Description: Manufacturer URL; ComponentLink1URL: http://www.latticesemi.com/; ComponentLink2Description: Datasheet; ComponentLink2URL: http://www.latticesemi.com/dynamic/view_document.cfm?document_id=3646
footprint TQFP100_N (Thin QFP, 100-Leads, Body 14x14mm, Pitch 0.5mm, IPC Medium Density)
footprint TQFP100_L (Thin QFP, 100-Leads, Body 14x14mm, Pitch 0.5mm, IPC High Density)
footprint TQFP100_M (Thin QFP, 100-Leads, Body 14x14mm, Pitch 0.5mm, IPC Low Density)
part A pins: 3 B0, B^0 (io) "General purpose I/O.", 4 B2, B^1 (io) "General purpose I/O.", 5 B4, B^2 (io) "General purpose I/O.", 6 B6, B^3 (io) "General purpose I/O.", 8 B8, B^4 (io) "General purpose I/O.", 9 B10, B^5 (io) "General purpose I/O.", 10 B12, B^6 (io) "General purpose I/O.", 11 B13, B^7 (io) "General purpose I/O.", 14 C14, C^7 (io) "General purpose I/O.", 15 C12, C^6 (io) "General purpose I/O.", 16 C10, C^5 (io) "General purpose I/O.", 17 C8, C^4 (io) "General purpose I/O.", 19 C6, C^3 (io) "General purpose I/O.", 20 C5, C^2 (io) "General purpose I/O.", 21 C4, C^1 (io) "General purpose I/O.", 22 C2, C^0 (io) "General purpose I/O.", 28 D13, D^7 (io) "General purpose I/O.", 29 D12, D^6 (io) "General purpose I/O.", 30 D10, D^5 (io) "General purpose I/O.", 31 D8, D^4 (io) "General purpose I/O.", 34 D6, D^3 (io) "General purpose I/O.", 35 D4, D^2 (io) "General purpose I/O.", 36 D2, D^1 (io) "General purpose I/O.", 37 D0, D^0 (io) "General purpose I/O.", 91 A0/GOE0, A^0 (io) "Either Global Output Enable Input or general I/O.", 92 A2, A^1 (io) "General purpose I/O.", 93 A4, A^2 (io) "General purpose I/O.", 94 A6, A^3 (io) "General purpose I/O.", 97 A8, A^4 (io) "General purpose I/O.", 98 A10, A^5 (io) "General purpose I/O.", 99 A12, A^6 (io) "General purpose I/O.", 100 A14, A^7 (io) "General purpose I/O."
part B pins: 41 E0, E^0 (io) "General purpose I/O.", 42 E2, E^1 (io) "General purpose I/O.", 43 E4, E^2 (io) "General purpose I/O.", 44 E6, E^3 (io) "General purpose I/O.", 47 E8, E^4 (io) "General purpose I/O.", 48 E10, E^5 (io) "General purpose I/O.", 49 E12, E^6 (io) "General purpose I/O.", 50 E14, E^7 (io) "General purpose I/O.", 53 F0, F^0 (io) "General purpose I/O.", 54 F2, F^1 (io) "General purpose I/O.", 55 F4, F^2 (io) "General purpose I/O.", 56 F6, F^3 (io) "General purpose I/O.", 58 F8, F^4 (io) "General purpose I/O.", 59 F10, F^5 (io) "General purpose I/O.", 60 F12, F^6 (io) "General purpose I/O.", 61 F13, F^7 (io) "General purpose I/O.", 64 G14, G^7 (io) "General purpose I/O.", 65 G12, G^6 (io) "General purpose I/O.", 66 G10, G^5 (io) "General purpose I/O.", 67 G8, G^4 (io) "General purpose I/O.", 69 G6, G^3 (io) "General purpose I/O.", 70 G5, G^2 (io) "General purpose I/O.", 71 G4, G^1 (io) "General purpose I/O.", 72 G2, G^0 (io) "General purpose I/O.", 78 H13, H^7 (io) "General purpose I/O.", 79 H12, H^6 (io) "General purpose I/O.", 80 H10, H^5 (io) "General purpose I/O.", 81 H8, H^4 (io) "General purpose I/O.", 84 H6, H^3 (io) "General purpose I/O.", 85 H4, H^2 (io) "General purpose I/O.", 86 H2, H^1 (io) "General purpose I/O.", 87 H0/GOE1, H^0 (io) "Either Global Output Enable Input or general I/O."
part C pins: 38 CLK1/I (in) "Either CLK input or input.", 39 CLK2/I (in) "Either CLK input or input.", 88 CLK3/I (in) "Either CLK input or input.", 89 CLK0/I (in) "Either CLK input or input."
part D pins: 2 TDI (in) "Test Data Input. Loads data into device using 1149.1 state machine.", 24 TCK (in) "Test Clock Input for 1149.1 state machine.", 52 TMS (in) "Test Mode Select Input to control 1149.1 state machine.", 74 TDO (out) "Test Data Output. Shifts data out of device using 1149.1."
part E pins: 13 VCCO (Bank0) (power) "Power supply pin for I/O bank.", 25 VCC (power) "Power supply for logic core and JTAG port.", 33 VCCO (Bank0) (power) "Power supply pin for I/O bank.", 40 VCC (power) "Power supply for logic core and JTAG port.", 45 VCCO (Bank1) (power) "Power supply pin for I/O bank.", 63 VCCO (Bank1) (power) "Power supply pin for I/O bank.", 75 VCC (power) "Power supply for logic core and JTAG port.", 83 VCCO (Bank1) (power) "Power supply pin for I/O bank.", 90 VCC (power) "Power supply for logic core and JTAG port.", 95 VCCO (Bank0) (power) "Power supply pin for I/O bank."
part F pins: 1 GND (power) "Ground", 7 GND (Bank0) (power) "I/O Ground", 18 GND (Bank0) (power) "I/O Ground", 26 GND (power) "Ground", 32 GND (Bank0) (power) "I/O Ground", 46 GND (Bank1) (power) "I/O Ground", 51 GND (power) "Ground", 57 GND (Bank1) (power) "I/O Ground", 68 GND (Bank1) (power) "I/O Ground", 76 GND (power) "Ground", 82 GND (Bank1) (power) "I/O Ground", 96 GND (Bank0) (power) "I/O Ground"
part G pins: 12 I (in) "Input Signal Pin.", 23 I (in) "Input Signal Pin.", 27 I (in) "Input Signal Pin.", 62 I (in) "Input Signal Pin.", 73 I (in) "Input Signal Pin.", 77 I (in) "Input Signal Pin."
part A text: BANK 0
part B text: BANK 1

## LC4128ZC-75M132C
designator U?
ispMACH 4128 SuperFAST High Density PLD, 1.8 V, 96 User I/Os, 132-Ball caBGA, 7.5 ns, Commercial Grade; DatasheetVersion: ver22.3, Mar-2007; PackageVersion: ver02.8, Jul-2011; PackageReference: csBGA132; PackageDescription: 132-Ball Chip Scale Ball Grid Array (csBGA132); ComponentLink1Description: Manufacturer URL; ComponentLink1URL: http://www.latticesemi.com/; ComponentLink2Description: Datasheet; ComponentLink2URL: http://www.latticesemi.com/dynamic/view_document.cfm?document_id=3646
footprint csBGA132 (BGA, 132-Leads, Body 8x8mm, Pitch 0.5mm)
part A pins: A1 A14, A^11 (io) "General purpose I/O.", A2 A13, A^10 (io) "General purpose I/O.", A3 A10, A^8 (io) "General purpose I/O.", A4 A8, A^6 (io) "General purpose I/O.", A5 A6, A^5 (io) "General purpose I/O.", A6 A1, A^1 (io) "General purpose I/O.", B3 A12, A^9 (io) "General purpose I/O.", B5 A5, A^4 (io) "General purpose I/O.", B6 A2, A^2 (io) "General purpose I/O.", C2 B1, B^1 (io) "General purpose I/O.", C3 B0, B^0 (io) "General purpose I/O.", C4 A9, A^7 (io) "General purpose I/O.", C6 A4, A^3 (io) "General purpose I/O.", C7 A0/GOE0, A^0 (io) "Either Global Output Enable Input or general I/O.", D1 B2, B^2 (io) "General purpose I/O.", D2 B5, B^4 (io) "General purpose I/O.", D3 B4, B^3 (io) "General purpose I/O.", E1 B6, B^5 (io) "General purpose I/O.", E3 B8, B^6 (io) "General purpose I/O.", F1 B10, B^8 (io) "General purpose I/O.", F2 B9, B^7 (io) "General purpose I/O.", F3 B12, B^9 (io) "General purpose I/O.", G1 B13, B^10 (io) "General purpose I/O.", G2 B14, B^11 (io) "General purpose I/O.", H1 C13, C^10 (io) "General purpose I/O.", H2 C14, C^11 (io) "General purpose I/O.", H3 C12, C^9 (io) "General purpose I/O.", J1 C10, C^8 (io) "General purpose I/O.", J2 C9, C^7 (io) "General purpose I/O.", J3 C8, C^6 (io) "General purpose I/O.", K1 C6, C^5 (io) "General purpose I/O.", K3 C5, C^4 (io) "General purpose I/O.", L1 C2, C^2 (io) "General purpose I/O.", L2 C4, C^3 (io) "General purpose I/O.", L3 C1, C^1 (io) "General purpose I/O.", M1 C0, C^0 (io) "General purpose I/O.", M3 D12, D^9 (io) "General purpose I/O.", M4 D8, D^6 (io) "General purpose I/O.", M5 D5, D^4 (io) "General purpose I/O.", M6 D1, D^1 (io) "General purpose I/O.", N2 D14, D^11 (io) "General purpose I/O.", N3 D10, D^8 (io) "General purpose I/O.", N5 D6, D^5 (io) "General purpose I/O.", N6 D4, D^3 (io) "General purpose I/O.", P3 D13, D^10 (io) "General purpose I/O.", P4 D9, D^7 (io) "General purpose I/O.", P6 D2, D^2 (io) "General purpose I/O.", P7 D0, D^0 (io) "General purpose I/O."
part B pins: A8 H0/GOE1, H^0 (io) "Either Global Output Enable Input or general I/O.", A9 H2, H^2 (io) "General purpose I/O.", A11 H9, H^7 (io) "General purpose I/O.", A12 H13, H^10 (io) "General purpose I/O.", B9 H4, H^3 (io) "General purpose I/O.", B10 H6, H^5 (io) "General purpose I/O.", B12 H10, H^8 (io) "General purpose I/O.", B13 H14, H^11 (io) "General purpose I/O.", C9 H1, H^1 (io) "General purpose I/O.", C10 H5, H^4 (io) "General purpose I/O.", C11 H8, H^6 (io) "General purpose I/O.", C12 H12, H^9 (io) "General purpose I/O.", C14 G0, G^0 (io) "General purpose I/O.", D12 G1, G^1 (io) "General purpose I/O.", D13 G4, G^3 (io) "General purpose I/O.", D14 G2, G^2 (io) "General purpose I/O.", E12 G5, G^4 (io) "General purpose I/O.", E14 G6, G^5 (io) "General purpose I/O.", F12 G8, G^6 (io) "General purpose I/O.", F13 G9, G^7 (io) "General purpose I/O.", F14 G10, G^8 (io) "General purpose I/O.", G12 G12, G^9 (io) "General purpose I/O.", G13 G14, G^11 (io) "General purpose I/O.", G14 G13, G^10 (io) "General purpose I/O.", H13 F14, F^11 (io) "General purpose I/O.", H14 F13, F^10 (io) "General purpose I/O.", J12 F12, F^9 (io) "General purpose I/O.", J13 F9, F^7 (io) "General purpose I/O.", J14 F10, F^8 (io) "General purpose I/O.", K12 F8, F^6 (io) "General purpose I/O.", K14 F6, F^5 (io) "General purpose I/O.", L12 F4, F^3 (io) "General purpose I/O.", L13 F5, F^4 (io) "General purpose I/O.", L14 F2, F^2 (io) "General purpose I/O.", M8 E0, E^0 (io) "General purpose I/O.", M9 E4, E^3 (io) "General purpose I/O.", M11 E9, E^7 (io) "General purpose I/O.", M12 F0, F^0 (io) "General purpose I/O.", M13 F1, F^1 (io) "General purpose I/O.", N9 E2, E^2 (io) "General purpose I/O.", N10 E5, E^4 (io) "General purpose I/O.", N12 E12, E^9 (io) "General purpose I/O.", P9 E1, E^1 (io) "General purpose I/O.", P10 E6, E^5 (io) "General purpose I/O.", P11 E8, E^6 (io) "General purpose I/O.", P12 E10, E^8 (io) "General purpose I/O.", P13 E13, E^10 (io) "General purpose I/O.", P14 E14, E^11 (io) "General purpose I/O."
part C pins: B8 CLK3/I (in) "Either CLK input or input.", C8 CLK0/I (in) "Either CLK input or input.", M7 CLK2/I (in) "Either CLK input or input.", N7 CLK1/I (in) "Either CLK input or input."
part D pins: B2 TDI (in) "Test Data Input. Loads data into device using 1149.1 state machine.", B14 TDO (out) "Test Data Output. Shifts data out of device using 1149.1.", N1 TCK (in) "Test Clock Input for 1149.1 state machine.", N13 TMS (in) "Test Mode Select Input to control 1149.1 state machine."
part E pins: A10 VCCO (Bank1) (power) "Power supply pin for I/O bank.", A14 VCC (power) "Power supply for logic core and JTAG port.", B7 VCC (power) "Power supply for logic core and JTAG port.", C1 VCCO (Bank0) (power) "Power supply pin for I/O bank.", C5 VCCO (Bank0) (power) "Power supply pin for I/O bank.", C13 VCCO (Bank1) (power) "Power supply pin for I/O bank.", G3 VCCO (Bank0) (power) "Power supply pin for I/O bank.", H12 VCCO (Bank1) (power) "Power supply pin for I/O bank.", M2 VCCO (Bank0) (power) "Power supply pin for I/O bank.", M10 VCCO (Bank1) (power) "Power supply pin for I/O bank.", M14 VCCO (Bank1) (power) "Power supply pin for I/O bank.", N8 VCC (power) "Power supply for logic core and JTAG port.", P1 VCC (power) "Power supply for logic core and JTAG port.", P5 VCCO (Bank0) (power) "Power supply pin for I/O bank."
part F pins: A13 GND (power) "Ground", B1 GND (power) "Ground", B4 GND (Bank0) (power) "I/O Ground", B11 GND (Bank1) (power) "I/O Ground", E2 GND (Bank0) (power) "I/O Ground", E13 GND (Bank1) (power) "I/O Ground", K2 GND (Bank0) (power) "I/O Ground", K13 GND (Bank1) (power) "I/O Ground", N4 GND (Bank0) (power) "I/O Ground", N11 GND (Bank1) (power) "I/O Ground", N14 GND (power) "Ground", P2 GND (power) "Ground"
part G pins: A7 NC "Not Connected.", P8 NC "Not Connected."
part A text: BANK 0
part B text: BANK 1

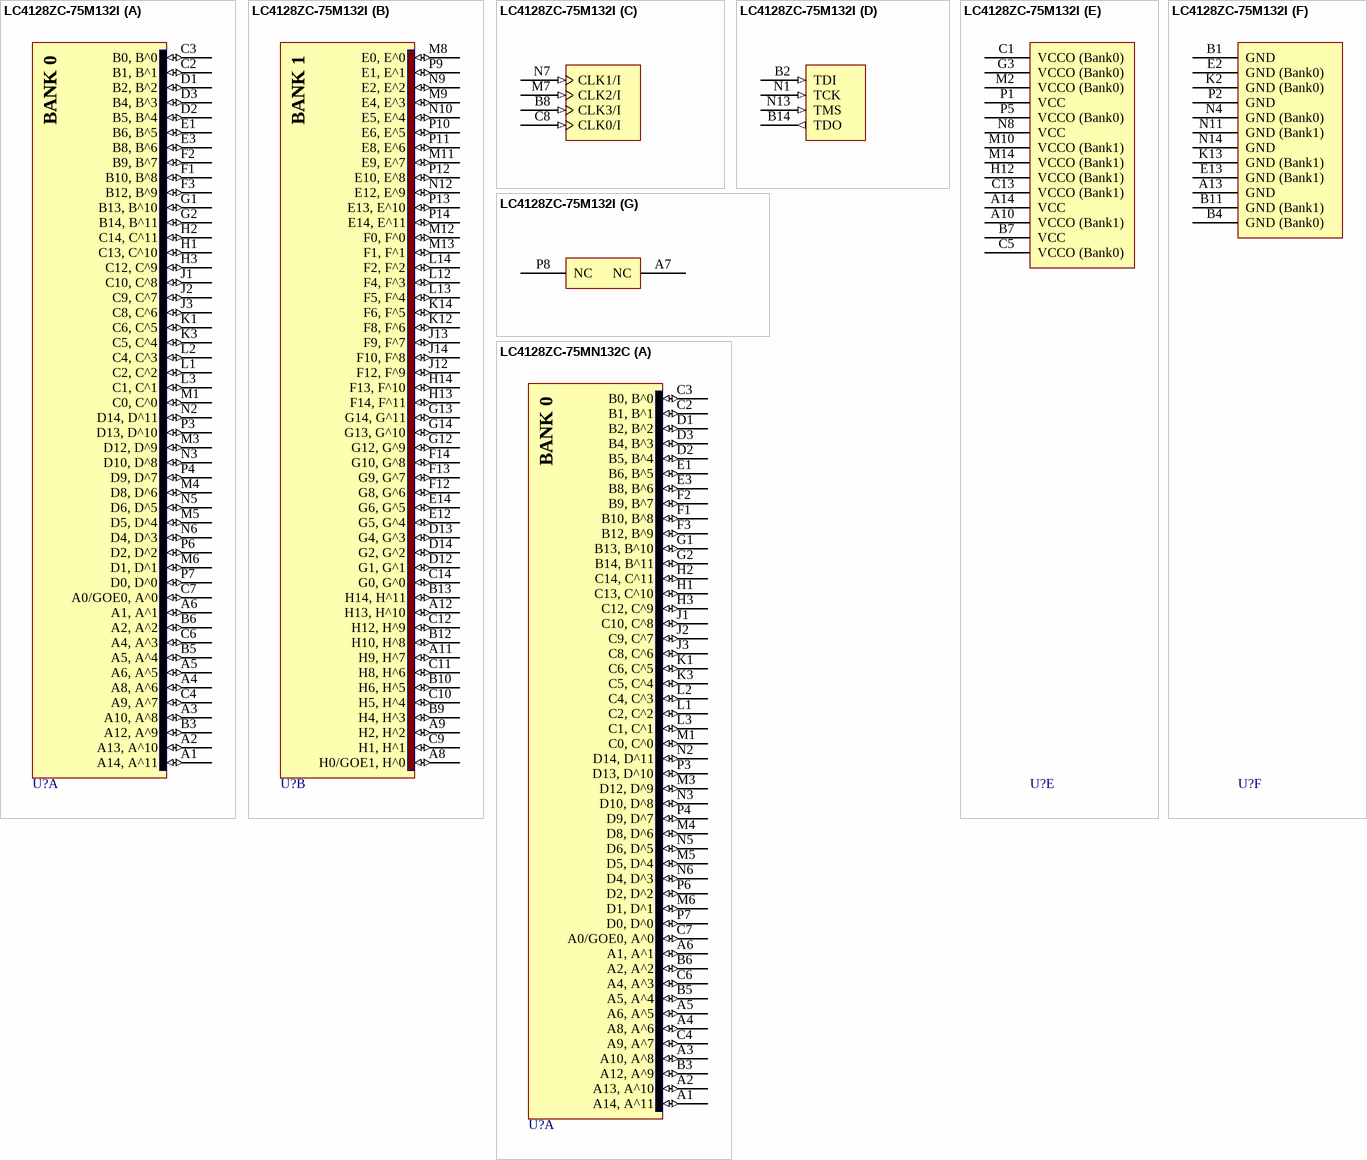
[diagram p23: symbols LC4128ZC-75M132I to LC4128ZC-75MN132C]